# EAGLE library part STP16CP05 (library PP_DigitalIC)
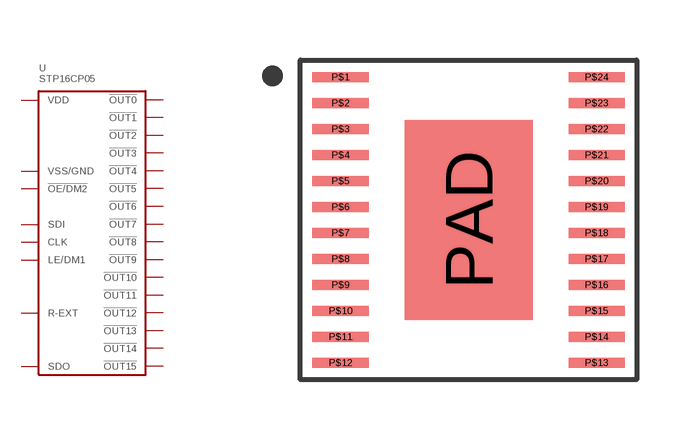
[diagram p28: symbol with the pads of STP16CP05XTTR_TTSOP-24; footprint STP16CP05XTTR_TTSOP-24]

Designator prefix U

## STP16CP05XTTR  [STP16CP05XTTR_TTSOP-24]
P$1  VSS/GND
P$2  SDI
P$3  CLK
P$4  LE/DM1
P$5  !OUT0
P$6  !OUT1
P$7  !OUT2
P$8  !OUT3
P$9  !OUT4
P$10  !OUT5
P$11  !OUT6
P$12  !OUT7
P$13  !OUT8
P$14  !OUT9
P$15  !OUT10
P$16  !OUT11
P$17  !OUT12
P$18  !OUT13
P$19  !OUT14
P$20  !OUT15
P$21  !OE/DM2
P$22  SDO
P$23  R-EXT
P$24  VDD
PAD  VSS/GND

## Footprint STP16CP05XTTR_TTSOP-24 (pad centres in mm)
smd 1.4 x 0.25: P$1 -3.2,3.575; P$2 -3.2,2.925; P$3 -3.2,2.275; P$4 -3.2,1.625; P$5 -3.2,0.975; P$6 -3.2,0.325; P$7 -3.2,-0.325; P$8 -3.2,-0.975; P$9 -3.2,-1.625; P$10 -3.2,-2.275; P$11 -3.2,-2.925; P$12 -3.2,-3.575; P$13 3.2,-3.575; P$14 3.2,-2.925; P$15 3.2,-2.275; P$16 3.2,-1.625; P$17 3.2,-0.975; P$18 3.2,-0.325; P$19 3.2,0.325; P$20 3.2,0.975; P$21 3.2,1.625; P$22 3.2,2.275; P$23 3.2,2.925; P$24 3.2,3.575
smd 3.2 x 5: PAD 0,0